# EAGLE library part 418127270912 (library Wurth_Switch_WS-DITV)
WS-DITV Small Compact THT with Raised Actuator 2.54 mm Mechanical Properties Operation Force:600 g Electrical Life:2000 Cycles Actuator Type:Raise Type Switch Position:Off Properties IR:25 mA VR:24 V (DC) IR:100 mA VR:50 V (DC) Contact Resistance Initial:50 mΩ Contact Resistance After Life Test:100 mΩ RISO:100 MΩ Withstanding Voltage:500 V (AC) Actuator Type:Raise Type Switch Position:Off Material Properties Cover Material:PA9T Cover Flammability Rating:UL94 V-0 Cover Color:Black Base Material:PA9T Base Flammability Rating:UL94 V-0 Base Color:Black Actuator Material:PA66 Actuator Flammability Rating:UL94 V-0 Actuator Color:White Contact Material:Copper Alloy Contact Plating:Gold Terminal Material:Copper Alloy Terminal Plating:Gold General Information Operating Temperature:-40 up to +85 °C Packaging Properties Packaging:Tube <https://www.we-online.com/catalog/media/o77465v209%20Family_WS-DITV_THT_RAISED_ACTUATOR_4181272709xx_4C.jpg> Details see: https://www.we-online.com/catalog/en/DITV_2_54_SMALL_COMPACT_THT_WITH_RAISED_ACTUATOR/ Updated by Yingchun, Shan 2020-01-22 2020 (C) Würth Elektronik
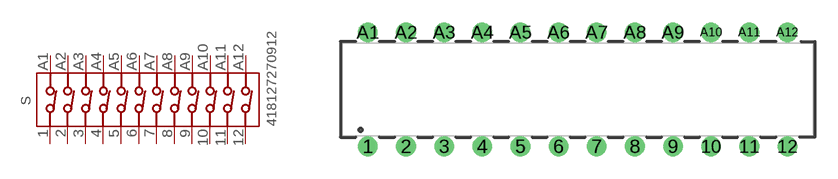
[diagram p31: symbol with the pads of 418127270912; footprint 418127270912]

Designator prefix S

## 418127270912 (DATASHEET-URL: https://www.we-online.com/catalog/datasheet/418127270912.pdf; PART-NUMBER: 418127270912; PINS: 12; QTY: 16; VALUE: 418127270912)  [418127270912]
1  1  pas
2  2  pas
3  3  pas
4  4  pas
5  5  pas
6  6  pas
7  7  pas
8  8  pas
9  9  pas
10  10  pas
11  11  pas
12  12  pas
A1  A1  pas
A2  A2  pas
A3  A3  pas
A4  A4  pas
A5  A5  pas
A6  A6  pas
A7  A7  pas
A8  A8  pas
A9  A9  pas
A10  A10  pas
A11  A11  pas
A12  A12  pas

## Footprint 418127270912 (pad centres in mm)
WS-DITV Small Compact THT with Raised Actuator 2.54 mm ,12Poles
drill 0.8: 1 -13.97,-3.81; 2 -11.43,-3.81; 3 -8.89,-3.81; 4 -6.35,-3.81; 5 -3.81,-3.81; 6 -1.27,-3.81; 7 1.27,-3.81; 8 3.81,-3.81; 9 6.35,-3.81; 10 8.89,-3.81; 11 11.43,-3.81; 12 13.97,-3.81; A1 -13.97,3.81; A2 -11.43,3.81; A3 -8.89,3.81; A4 -6.35,3.81; A5 -3.81,3.81; A6 -1.27,3.81; A7 1.27,3.81; A8 3.81,3.81; A9 6.35,3.81; A10 8.89,3.81; A11 11.43,3.81; A12 13.97,3.81